# Altium integrated library Analog Devices Interface and Isolation Digital Isolators.IntLib: 644 symbols (part 8 of 37)
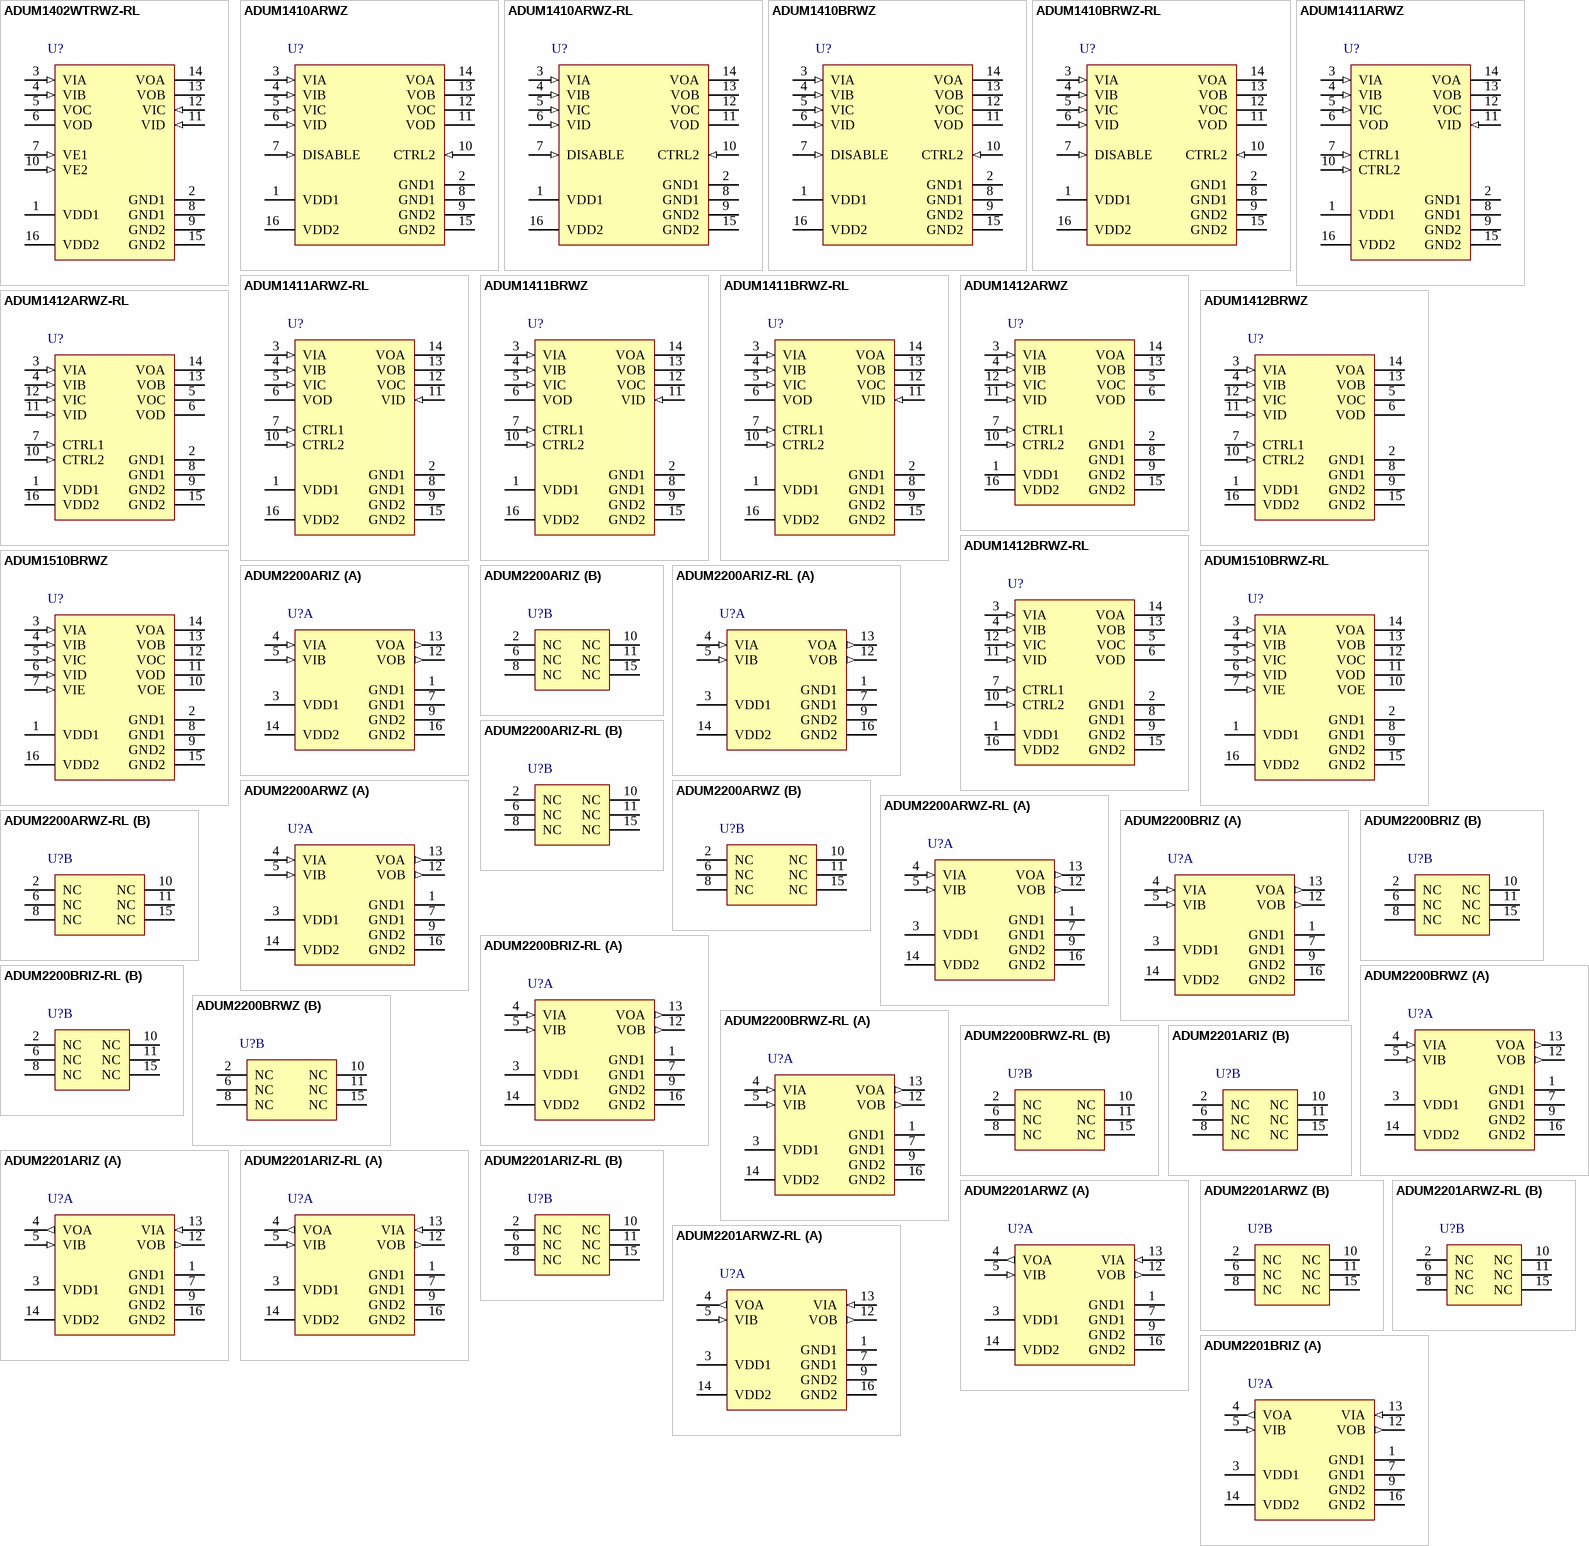
[diagram p27: symbols ADUM1402WTRWZ-RL to ADUM2201BRIZ]

## ADUM1411ARWZ
designator U?
Quad Channel Digital Isolator, 2.5 KV rms Insulation Rating, 1 Mbps Data Rate, 100 ns Delay, Industrial, 16-pin SOIC (RW-16), Tube; Manufacturer: Analog Devices; PartNumber: ADUM1411ARWZ; Insulation Rating (kVrms): 2.5; Max Data Rate: 1Mbps; DatasheetVersion: Rev. I; PackageVersion: 032707-B, 03/2007; PackageReference: RW-16; PackageDescription: 16-Pin Standard Small Outline Package, Body 10.3 x 7.5 mm, Pitch 1.27 mm; Supplier 1: Digi-Key; Supplier Part Number 1: ADUM1411ARWZ-ND; Supplier 2: Farnell; Supplier Part Number 2: 2377151; Supplier 3: Farnell; Supplier Part Number 3: 2148827; Supplier 4: Mouser; Supplier Part Number 4: 584-ADUM1411ARWZ; Max Operating Temp (degreesC): 105; Mounting Technology: Surface Mount; Code_JEDEC: MS-013-AA; ComponentLink1Description: Manufacturer URL; ComponentLink1URL: http://www.analog.com/en/index.html; ComponentLink2Description: Datasheet; ComponentLink2URL: http://www.analog.com/static/imported-files/data_sheets/ADUM1410_1411_1412.pdf; ComponentLink3Description: Package Specification; ComponentLink3URL: http://www.analog.com/static/imported-files/packages/PKG_PDF/SOIC_WIDE%20%28RW%29/RW_16.pdf; ComponentLink4Description: URL Link1; ComponentLink4URL: Product URL:http://www.analog.com/en/interface-isolation/digital-isolators/adum1411/products/product.html
footprint ADI-RW-16_N (SOIC, 16-Leads, Body 10.3x7.5mm, Pitch 1.27mm, IPC Medium Density)
footprint ADI-RW-16_L (SOIC, 16-Leads, Body 10.3x7.5mm, Pitch 1.27mm, IPC High Density)
footprint ADI-RW-16_M (SOIC, 16-Leads, Body 10.3x7.5mm, Pitch 1.27mm, IPC Low Density)
pins: 1 VDD1 (power) "Supply Voltage for Isolator Side 1 (2.7 V to 5.5 V).", 2 GND1 (power) "Ground 1. Ground reference for Isolator Side 1. Pin 2 and Pin 8 are internally connected, and connecting both to GND1 is recommended.", 3 VIA (in) "Logic Input A.", 4 VIB (in) "Logic Input B.", 5 VIC (in) "Logic Input C.", 6 VOD (hiz) "Logic Output D.", 7 CTRL1 (in) "Default Output Control. Controls the logic state the outputs assume when the input power is off. VOD output is high when CTRL1 is high or disconnected and VDD2 is off. VOD output is low when CTRL1 is low and VDD2 is off. (See Datasheet)", 8 GND1 (power) "Ground 1. Ground reference for Isolator Side 1. Pin 2 and Pin 8 are internally connected, and connecting both to GND1 is recommended.", 9 GND2 (power) "Ground 2. Ground reference for Isolator Side 2. Pin 9 and Pin 15 are internally connected, and connecting both to GND2 is recommended.", 10 CTRL2 (in) "Default Output Control. Controls the logic state the outputs assume when the input power is off. VOA, VOB, and VOC outputs are high when CTRL2 is high or disconnected and VDD1 is off. VOA, VOB, and VOC outputs are low when (See Datasheet)", 11 VID (in) "Logic Input D.", 12 VOC (hiz) "Logic Output C.", 13 VOB (hiz) "Logic Output B.", 14 VOA (hiz) "Logic Output A.", 15 GND2 (power) "Ground 2. Ground reference for Isolator Side 2. Pin 9 and Pin 15 are internally connected, and connecting both to GND2 is recommended.", 16 VDD2 (power) "Supply Voltage for Isolator Side 2 (2.7 V to 5.5 V)."

## ADUM1411ARWZ-RL
designator U?
Quad Channel Digital Isolator, 2.5 KV rms Insulation Rating, 1 Mbps Data Rate, 100 ns Delay, Industrial, 16-pin SOIC (RW-16), Reel; Manufacturer: Analog Devices; PartNumber: ADUM1411ARWZ-RL; Insulation Rating (kVrms): 2.5; Max Data Rate: 1Mbps; DatasheetVersion: Rev. I; PackageVersion: 032707-B, 03/2007; PackageReference: RW-16; PackageDescription: 16-Pin Standard Small Outline Package, Body 10.3 x 7.5 mm, Pitch 1.27 mm; Supplier 1: Digi-Key; Supplier Part Number 1: ADUM1411ARWZ-RLTR-ND; Supplier 2: Digi-Key; Supplier Part Number 2: ADUM1411ARWZ-RLCT-ND; Supplier 3: Digi-Key; Supplier Part Number 3: ADUM1411ARWZ-RLDKR-ND; Supplier 4: Mouser; Supplier Part Number 4: 584-ADUM1411ARWZ-R; Max Operating Temp (degreesC): 105; Mounting Technology: Surface Mount; Code_JEDEC: MS-013-AA; ComponentLink1Description: Manufacturer URL; ComponentLink1URL: http://www.analog.com/en/index.html; ComponentLink2Description: Datasheet; ComponentLink2URL: http://www.analog.com/static/imported-files/data_sheets/ADUM1410_1411_1412.pdf; ComponentLink3Description: Package Specification; ComponentLink3URL: http://www.analog.com/static/imported-files/packages/PKG_PDF/SOIC_WIDE%20%28RW%29/RW_16.pdf; ComponentLink4Description: URL Link1; ComponentLink4URL: Product URL:http://www.analog.com/en/interface-isolation/digital-isolators/adum1411/products/product.html
footprint ADI-RW-16_N (SOIC, 16-Leads, Body 10.3x7.5mm, Pitch 1.27mm, IPC Medium Density)
footprint ADI-RW-16_L (SOIC, 16-Leads, Body 10.3x7.5mm, Pitch 1.27mm, IPC High Density)
footprint ADI-RW-16_M (SOIC, 16-Leads, Body 10.3x7.5mm, Pitch 1.27mm, IPC Low Density)
pins: 1 VDD1 (power) "Supply Voltage for Isolator Side 1 (2.7 V to 5.5 V).", 2 GND1 (power) "Ground 1. Ground reference for Isolator Side 1. Pin 2 and Pin 8 are internally connected, and connecting both to GND1 is recommended.", 3 VIA (in) "Logic Input A.", 4 VIB (in) "Logic Input B.", 5 VIC (in) "Logic Input C.", 6 VOD (hiz) "Logic Output D.", 7 CTRL1 (in) "Default Output Control. Controls the logic state the outputs assume when the input power is off. VOD output is high when CTRL1 is high or disconnected and VDD2 is off. VOD output is low when CTRL1 is low and VDD2 is off. (See Datasheet)", 8 GND1 (power) "Ground 1. Ground reference for Isolator Side 1. Pin 2 and Pin 8 are internally connected, and connecting both to GND1 is recommended.", 9 GND2 (power) "Ground 2. Ground reference for Isolator Side 2. Pin 9 and Pin 15 are internally connected, and connecting both to GND2 is recommended.", 10 CTRL2 (in) "Default Output Control. Controls the logic state the outputs assume when the input power is off. VOA, VOB, and VOC outputs are high when CTRL2 is high or disconnected and VDD1 is off. VOA, VOB, and VOC outputs are low when (See Datasheet)", 11 VID (in) "Logic Input D.", 12 VOC (hiz) "Logic Output C.", 13 VOB (hiz) "Logic Output B.", 14 VOA (hiz) "Logic Output A.", 15 GND2 (power) "Ground 2. Ground reference for Isolator Side 2. Pin 9 and Pin 15 are internally connected, and connecting both to GND2 is recommended.", 16 VDD2 (power) "Supply Voltage for Isolator Side 2 (2.7 V to 5.5 V)."

## ADUM1411BRWZ
designator U?
Quad Channel Digital Isolator, 2.5 KV rms Insulation Rating, 10 Mbps Data Rate, 50 ns Delay, Industrial, 16-pin SOIC (RW-16), Tube; Manufacturer: Analog Devices; PartNumber: ADUM1411BRWZ; Insulation Rating (kVrms): 2.5; Max Data Rate: 10Mbps; DatasheetVersion: Rev. I; PackageVersion: 032707-B, 03/2007; PackageReference: RW-16; PackageDescription: 16-Pin Standard Small Outline Package, Body 10.3 x 7.5 mm, Pitch 1.27 mm; Supplier 1: Digi-Key; Supplier Part Number 1: ADUM1411BRWZ-ND; Supplier 2: Farnell; Supplier Part Number 2: 1897130; Supplier 3: Mouser; Supplier Part Number 3: 584-ADUM1411BRWZ; Max Operating Temp (degreesC): 105; Mounting Technology: Surface Mount; Code_JEDEC: MS-013-AA; ComponentLink1Description: Manufacturer URL; ComponentLink1URL: http://www.analog.com/en/index.html; ComponentLink2Description: Datasheet; ComponentLink2URL: http://www.analog.com/static/imported-files/data_sheets/ADUM1410_1411_1412.pdf; ComponentLink3Description: Package Specification; ComponentLink3URL: http://www.analog.com/static/imported-files/packages/PKG_PDF/SOIC_WIDE%20%28RW%29/RW_16.pdf; ComponentLink4Description: URL Link1; ComponentLink4URL: Product URL:http://www.analog.com/en/interface-isolation/digital-isolators/adum1411/products/product.html
footprint ADI-RW-16_N (SOIC, 16-Leads, Body 10.3x7.5mm, Pitch 1.27mm, IPC Medium Density)
footprint ADI-RW-16_L (SOIC, 16-Leads, Body 10.3x7.5mm, Pitch 1.27mm, IPC High Density)
footprint ADI-RW-16_M (SOIC, 16-Leads, Body 10.3x7.5mm, Pitch 1.27mm, IPC Low Density)
pins: 1 VDD1 (power) "Supply Voltage for Isolator Side 1 (2.7 V to 5.5 V).", 2 GND1 (power) "Ground 1. Ground reference for Isolator Side 1. Pin 2 and Pin 8 are internally connected, and connecting both to GND1 is recommended.", 3 VIA (in) "Logic Input A.", 4 VIB (in) "Logic Input B.", 5 VIC (in) "Logic Input C.", 6 VOD (hiz) "Logic Output D.", 7 CTRL1 (in) "Default Output Control. Controls the logic state the outputs assume when the input power is off. VOD output is high when CTRL1 is high or disconnected and VDD2 is off. VOD output is low when CTRL1 is low and VDD2 is off. (See Datasheet)", 8 GND1 (power) "Ground 1. Ground reference for Isolator Side 1. Pin 2 and Pin 8 are internally connected, and connecting both to GND1 is recommended.", 9 GND2 (power) "Ground 2. Ground reference for Isolator Side 2. Pin 9 and Pin 15 are internally connected, and connecting both to GND2 is recommended.", 10 CTRL2 (in) "Default Output Control. Controls the logic state the outputs assume when the input power is off. VOA, VOB, and VOC outputs are high when CTRL2 is high or disconnected and VDD1 is off. VOA, VOB, and VOC outputs are low when (See Datasheet)", 11 VID (in) "Logic Input D.", 12 VOC (hiz) "Logic Output C.", 13 VOB (hiz) "Logic Output B.", 14 VOA (hiz) "Logic Output A.", 15 GND2 (power) "Ground 2. Ground reference for Isolator Side 2. Pin 9 and Pin 15 are internally connected, and connecting both to GND2 is recommended.", 16 VDD2 (power) "Supply Voltage for Isolator Side 2 (2.7 V to 5.5 V)."

## ADUM1411BRWZ-RL
designator U?
Quad Channel Digital Isolator, 2.5 KV rms Insulation Rating, 10 Mbps Data Rate, 50 ns Delay, Industrial, 16-pin SOIC (RW-16), Reel; Manufacturer: Analog Devices; PartNumber: ADUM1411BRWZ-RL; Insulation Rating (kVrms): 2.5; Max Data Rate: 10Mbps; DatasheetVersion: Rev. I; PackageVersion: 032707-B, 03/2007; PackageReference: RW-16; PackageDescription: 16-Pin Standard Small Outline Package, Body 10.3 x 7.5 mm, Pitch 1.27 mm; Supplier 1: Digi-Key; Supplier Part Number 1: ADUM1411BRWZ-RL-ND; Supplier 2: Mouser; Supplier Part Number 2: 584-ADUM1411BRWZ-R; Max Operating Temp (degreesC): 105; Mounting Technology: Surface Mount; Code_JEDEC: MS-013-AA; ComponentLink1Description: Manufacturer URL; ComponentLink1URL: http://www.analog.com/en/index.html; ComponentLink2Description: Datasheet; ComponentLink2URL: http://www.analog.com/static/imported-files/data_sheets/ADUM1410_1411_1412.pdf; ComponentLink3Description: Package Specification; ComponentLink3URL: http://www.analog.com/static/imported-files/packages/PKG_PDF/SOIC_WIDE%20%28RW%29/RW_16.pdf; ComponentLink4Description: URL Link1; ComponentLink4URL: Product URL:http://www.analog.com/en/interface-isolation/digital-isolators/adum1411/products/product.html
footprint ADI-RW-16_N (SOIC, 16-Leads, Body 10.3x7.5mm, Pitch 1.27mm, IPC Medium Density)
footprint ADI-RW-16_L (SOIC, 16-Leads, Body 10.3x7.5mm, Pitch 1.27mm, IPC High Density)
footprint ADI-RW-16_M (SOIC, 16-Leads, Body 10.3x7.5mm, Pitch 1.27mm, IPC Low Density)
pins: 1 VDD1 (power) "Supply Voltage for Isolator Side 1 (2.7 V to 5.5 V).", 2 GND1 (power) "Ground 1. Ground reference for Isolator Side 1. Pin 2 and Pin 8 are internally connected, and connecting both to GND1 is recommended.", 3 VIA (in) "Logic Input A.", 4 VIB (in) "Logic Input B.", 5 VIC (in) "Logic Input C.", 6 VOD (hiz) "Logic Output D.", 7 CTRL1 (in) "Default Output Control. Controls the logic state the outputs assume when the input power is off. VOD output is high when CTRL1 is high or disconnected and VDD2 is off. VOD output is low when CTRL1 is low and VDD2 is off. (See Datasheet)", 8 GND1 (power) "Ground 1. Ground reference for Isolator Side 1. Pin 2 and Pin 8 are internally connected, and connecting both to GND1 is recommended.", 9 GND2 (power) "Ground 2. Ground reference for Isolator Side 2. Pin 9 and Pin 15 are internally connected, and connecting both to GND2 is recommended.", 10 CTRL2 (in) "Default Output Control. Controls the logic state the outputs assume when the input power is off. VOA, VOB, and VOC outputs are high when CTRL2 is high or disconnected and VDD1 is off. VOA, VOB, and VOC outputs are low when (See Datasheet)", 11 VID (in) "Logic Input D.", 12 VOC (hiz) "Logic Output C.", 13 VOB (hiz) "Logic Output B.", 14 VOA (hiz) "Logic Output A.", 15 GND2 (power) "Ground 2. Ground reference for Isolator Side 2. Pin 9 and Pin 15 are internally connected, and connecting both to GND2 is recommended.", 16 VDD2 (power) "Supply Voltage for Isolator Side 2 (2.7 V to 5.5 V)."

## ADUM1412ARWZ
designator U?
Quad Channel Digital Isolator, 2.5 KV rms Insulation Rating, 1 Mbps Data Rate, 100 ns Delay, Industrial, 16-pin SOIC (RW-16), Tube; Manufacturer: Analog Devices; PartNumber: ADUM1412ARWZ; Insulation Rating (kVrms): 2.5; Max Data Rate: 1Mbps; DatasheetVersion: Rev. I; PackageVersion: 032707-B, 03/2007; PackageReference: RW-16; PackageDescription: 16-Pin Standard Small Outline Package, Body 10.3 x 7.5 mm, Pitch 1.27 mm; Supplier 1: Digi-Key; Supplier Part Number 1: ADUM1412ARWZ-ND; Supplier 2: Farnell; Supplier Part Number 2: 2377152; Supplier 3: Farnell; Supplier Part Number 3: 2192213; Supplier 4: Mouser; Supplier Part Number 4: 584-ADUM1412ARWZ; Max Operating Temp (degreesC): 105; Mounting Technology: Surface Mount; Code_JEDEC: MS-013-AA; ComponentLink1Description: Manufacturer URL; ComponentLink1URL: http://www.analog.com/en/index.html; ComponentLink2Description: Datasheet; ComponentLink2URL: http://www.analog.com/static/imported-files/data_sheets/ADUM1410_1411_1412.pdf; ComponentLink3Description: Package Specification; ComponentLink3URL: http://www.analog.com/static/imported-files/packages/PKG_PDF/SOIC_WIDE%20%28RW%29/RW_16.pdf; ComponentLink4Description: URL Link1; ComponentLink4URL: Product URL:http://www.analog.com/en/interface-isolation/digital-isolators/adum1412/products/product.html
footprint ADI-RW-16_N (SOIC, 16-Leads, Body 10.3x7.5mm, Pitch 1.27mm, IPC Medium Density)
footprint ADI-RW-16_L (SOIC, 16-Leads, Body 10.3x7.5mm, Pitch 1.27mm, IPC High Density)
footprint ADI-RW-16_M (SOIC, 16-Leads, Body 10.3x7.5mm, Pitch 1.27mm, IPC Low Density)
pins: 1 VDD1 (power) "Supply Voltage for Isolator Side 1 (2.7 V to 5.5 V).", 2 GND1 (power) "Ground 1. Ground reference for Isolator Side 1. Pin 2 and Pin 8 are internally connected, and connecting both to GND1 is recommended.", 3 VIA (in) "Logic Input A.", 4 VIB (in) "Logic Input B.", 5 VOC (hiz) "Logic Output C.", 6 VOD (hiz) "Logic Output D.", 7 CTRL1 (in) "Default Output Control. Controls the logic state the outputs assume when the input power is off. VOC and VOD outputs are high when CTRL1 is high or disconnected and VDD2 is off. VOC and VOD outputs are low when CTRL1 is low (See Datasheet)", 8 GND1 (power) "Ground 1. Ground reference for Isolator Side 1. Pin 2 and Pin 8 are internally connected, and connecting both to GND1 is recommended.", 9 GND2 (power) "Ground 2. Ground reference for Isolator Side 2. Pin 9 and Pin 15 are internally connected, and connecting both to GND2 is recommended.", 10 CTRL2 (in) "Default Output Control. Controls the logic state the outputs assume when the input power is off. VOA and VOB outputs are high when CTRL2 is high or disconnected and VDD1 is off. VOA and VOB outputs are low when CTRL2 is low (See Datasheet)", 11 VID (in) "Logic Input D.", 12 VIC (in) "Logic Input C.", 13 VOB (hiz) "Logic Output B.", 14 VOA (hiz) "Logic Output A.", 15 GND2 (power) "Ground 2. Ground reference for Isolator Side 2. Pin 9 and Pin 15 are internally connected, and connecting both to GND2 is recommended.", 16 VDD2 (power) "Supply Voltage for Isolator Side 2 (2.7 V to 5.5 V)."

## ADUM1412ARWZ-RL
designator U?
Quad Channel Digital Isolator, 2.5 KV rms Insulation Rating, 1 Mbps Data Rate, 100 ns Delay, Industrial, 16-pin SOIC (RW-16), Reel; Manufacturer: Analog Devices; PartNumber: ADUM1412ARWZ-RL; Insulation Rating (kVrms): 2.5; Max Data Rate: 1Mbps; DatasheetVersion: Rev. I; PackageVersion: 032707-B, 03/2007; PackageReference: RW-16; PackageDescription: 16-Pin Standard Small Outline Package, Body 10.3 x 7.5 mm, Pitch 1.27 mm; Supplier 1: Digi-Key; Supplier Part Number 1: ADUM1412ARWZ-RLTR-ND; Supplier 2: Digi-Key; Supplier Part Number 2: ADUM1412ARWZ-RLCT-ND; Supplier 3: Digi-Key; Supplier Part Number 3: ADUM1412ARWZ-RLDKR-ND; Supplier 4: Mouser; Supplier Part Number 4: 584-ADUM1412ARWZ-R; Max Operating Temp (degreesC): 105; Mounting Technology: Surface Mount; Code_JEDEC: MS-013-AA; ComponentLink1Description: Manufacturer URL; ComponentLink1URL: http://www.analog.com/en/index.html; ComponentLink2Description: Datasheet; ComponentLink2URL: http://www.analog.com/static/imported-files/data_sheets/ADUM1410_1411_1412.pdf; ComponentLink3Description: Package Specification; ComponentLink3URL: http://www.analog.com/static/imported-files/packages/PKG_PDF/SOIC_WIDE%20%28RW%29/RW_16.pdf; ComponentLink4Description: URL Link1; ComponentLink4URL: Product URL:http://www.analog.com/en/interface-isolation/digital-isolators/adum1412/products/product.html
footprint ADI-RW-16_N (SOIC, 16-Leads, Body 10.3x7.5mm, Pitch 1.27mm, IPC Medium Density)
footprint ADI-RW-16_L (SOIC, 16-Leads, Body 10.3x7.5mm, Pitch 1.27mm, IPC High Density)
footprint ADI-RW-16_M (SOIC, 16-Leads, Body 10.3x7.5mm, Pitch 1.27mm, IPC Low Density)
pins: 1 VDD1 (power) "Supply Voltage for Isolator Side 1 (2.7 V to 5.5 V).", 2 GND1 (power) "Ground 1. Ground reference for Isolator Side 1. Pin 2 and Pin 8 are internally connected, and connecting both to GND1 is recommended.", 3 VIA (in) "Logic Input A.", 4 VIB (in) "Logic Input B.", 5 VOC (hiz) "Logic Output C.", 6 VOD (hiz) "Logic Output D.", 7 CTRL1 (in) "Default Output Control. Controls the logic state the outputs assume when the input power is off. VOC and VOD outputs are high when CTRL1 is high or disconnected and VDD2 is off. VOC and VOD outputs are low when CTRL1 is low (See Datasheet)", 8 GND1 (power) "Ground 1. Ground reference for Isolator Side 1. Pin 2 and Pin 8 are internally connected, and connecting both to GND1 is recommended.", 9 GND2 (power) "Ground 2. Ground reference for Isolator Side 2. Pin 9 and Pin 15 are internally connected, and connecting both to GND2 is recommended.", 10 CTRL2 (in) "Default Output Control. Controls the logic state the outputs assume when the input power is off. VOA and VOB outputs are high when CTRL2 is high or disconnected and VDD1 is off. VOA and VOB outputs are low when CTRL2 is low (See Datasheet)", 11 VID (in) "Logic Input D.", 12 VIC (in) "Logic Input C.", 13 VOB (hiz) "Logic Output B.", 14 VOA (hiz) "Logic Output A.", 15 GND2 (power) "Ground 2. Ground reference for Isolator Side 2. Pin 9 and Pin 15 are internally connected, and connecting both to GND2 is recommended.", 16 VDD2 (power) "Supply Voltage for Isolator Side 2 (2.7 V to 5.5 V)."

## ADUM1412BRWZ
designator U?
Quad Channel Digital Isolator, 2.5 KV rms Insulation Rating, 10 Mbps Data Rate, 50 ns Delay, Industrial, 16-pin SOIC (RW-16), Tube; Manufacturer: Analog Devices; PartNumber: ADUM1412BRWZ; Insulation Rating (kVrms): 2.5; Max Data Rate: 10Mbps; DatasheetVersion: Rev. I; PackageVersion: 032707-B, 03/2007; PackageReference: RW-16; PackageDescription: 16-Pin Standard Small Outline Package, Body 10.3 x 7.5 mm, Pitch 1.27 mm; Supplier 1: Digi-Key; Supplier Part Number 1: ADUM1412BRWZ-ND; Supplier 2: Farnell; Supplier Part Number 2: 2377156; Supplier 3: Farnell; Supplier Part Number 3: 2317286; Supplier 4: Mouser; Supplier Part Number 4: 584-ADUM1412BRWZ; Max Operating Temp (degreesC): 105; Mounting Technology: Surface Mount; Code_JEDEC: MS-013-AA; ComponentLink1Description: Manufacturer URL; ComponentLink1URL: http://www.analog.com/en/index.html; ComponentLink2Description: Datasheet; ComponentLink2URL: http://www.analog.com/static/imported-files/data_sheets/ADUM1410_1411_1412.pdf; ComponentLink3Description: Package Specification; ComponentLink3URL: http://www.analog.com/static/imported-files/packages/PKG_PDF/SOIC_WIDE%20%28RW%29/RW_16.pdf; ComponentLink4Description: URL Link1; ComponentLink4URL: Product URL:http://www.analog.com/en/interface-isolation/digital-isolators/adum1412/products/product.html
footprint ADI-RW-16_N (SOIC, 16-Leads, Body 10.3x7.5mm, Pitch 1.27mm, IPC Medium Density)
footprint ADI-RW-16_L (SOIC, 16-Leads, Body 10.3x7.5mm, Pitch 1.27mm, IPC High Density)
footprint ADI-RW-16_M (SOIC, 16-Leads, Body 10.3x7.5mm, Pitch 1.27mm, IPC Low Density)
pins: 1 VDD1 (power) "Supply Voltage for Isolator Side 1 (2.7 V to 5.5 V).", 2 GND1 (power) "Ground 1. Ground reference for Isolator Side 1. Pin 2 and Pin 8 are internally connected, and connecting both to GND1 is recommended.", 3 VIA (in) "Logic Input A.", 4 VIB (in) "Logic Input B.", 5 VOC (hiz) "Logic Output C.", 6 VOD (hiz) "Logic Output D.", 7 CTRL1 (in) "Default Output Control. Controls the logic state the outputs assume when the input power is off. VOC and VOD outputs are high when CTRL1 is high or disconnected and VDD2 is off. VOC and VOD outputs are low when CTRL1 is low (See Datasheet)", 8 GND1 (power) "Ground 1. Ground reference for Isolator Side 1. Pin 2 and Pin 8 are internally connected, and connecting both to GND1 is recommended.", 9 GND2 (power) "Ground 2. Ground reference for Isolator Side 2. Pin 9 and Pin 15 are internally connected, and connecting both to GND2 is recommended.", 10 CTRL2 (in) "Default Output Control. Controls the logic state the outputs assume when the input power is off. VOA and VOB outputs are high when CTRL2 is high or disconnected and VDD1 is off. VOA and VOB outputs are low when CTRL2 is low (See Datasheet)", 11 VID (in) "Logic Input D.", 12 VIC (in) "Logic Input C.", 13 VOB (hiz) "Logic Output B.", 14 VOA (hiz) "Logic Output A.", 15 GND2 (power) "Ground 2. Ground reference for Isolator Side 2. Pin 9 and Pin 15 are internally connected, and connecting both to GND2 is recommended.", 16 VDD2 (power) "Supply Voltage for Isolator Side 2 (2.7 V to 5.5 V)."

## ADUM1412BRWZ-RL
designator U?
Quad Channel Digital Isolator, 2.5 KV rms Insulation Rating, 10 Mbps Data Rate, 50 ns Delay, Industrial, 16-pin SOIC (RW-16), Reel; Manufacturer: Analog Devices; PartNumber: ADUM1412BRWZ-RL; Insulation Rating (kVrms): 2.5; Max Data Rate: 10Mbps; DatasheetVersion: Rev. I; PackageVersion: 032707-B, 03/2007; PackageReference: RW-16; PackageDescription: 16-Pin Standard Small Outline Package, Body 10.3 x 7.5 mm, Pitch 1.27 mm; Supplier 1: Digi-Key; Supplier Part Number 1: ADUM1412BRWZ-RL-ND; Supplier 2: Mouser; Supplier Part Number 2: 584-ADUM1412BRWZ-R; Max Operating Temp (degreesC): 105; Mounting Technology: Surface Mount; Code_JEDEC: MS-013-AA; ComponentLink1Description: Manufacturer URL; ComponentLink1URL: http://www.analog.com/en/index.html; ComponentLink2Description: Datasheet; ComponentLink2URL: http://www.analog.com/static/imported-files/data_sheets/ADUM1410_1411_1412.pdf; ComponentLink3Description: Package Specification; ComponentLink3URL: http://www.analog.com/static/imported-files/packages/PKG_PDF/SOIC_WIDE%20%28RW%29/RW_16.pdf; ComponentLink4Description: URL Link1; ComponentLink4URL: Product URL:http://www.analog.com/en/interface-isolation/digital-isolators/adum1412/products/product.html
footprint ADI-RW-16_N (SOIC, 16-Leads, Body 10.3x7.5mm, Pitch 1.27mm, IPC Medium Density)
footprint ADI-RW-16_L (SOIC, 16-Leads, Body 10.3x7.5mm, Pitch 1.27mm, IPC High Density)
footprint ADI-RW-16_M (SOIC, 16-Leads, Body 10.3x7.5mm, Pitch 1.27mm, IPC Low Density)
pins: 1 VDD1 (power) "Supply Voltage for Isolator Side 1 (2.7 V to 5.5 V).", 2 GND1 (power) "Ground 1. Ground reference for Isolator Side 1. Pin 2 and Pin 8 are internally connected, and connecting both to GND1 is recommended.", 3 VIA (in) "Logic Input A.", 4 VIB (in) "Logic Input B.", 5 VOC (hiz) "Logic Output C.", 6 VOD (hiz) "Logic Output D.", 7 CTRL1 (in) "Default Output Control. Controls the logic state the outputs assume when the input power is off. VOC and VOD outputs are high when CTRL1 is high or disconnected and VDD2 is off. VOC and VOD outputs are low when CTRL1 is low (See Datasheet)", 8 GND1 (power) "Ground 1. Ground reference for Isolator Side 1. Pin 2 and Pin 8 are internally connected, and connecting both to GND1 is recommended.", 9 GND2 (power) "Ground 2. Ground reference for Isolator Side 2. Pin 9 and Pin 15 are internally connected, and connecting both to GND2 is recommended.", 10 CTRL2 (in) "Default Output Control. Controls the logic state the outputs assume when the input power is off. VOA and VOB outputs are high when CTRL2 is high or disconnected and VDD1 is off. VOA and VOB outputs are low when CTRL2 is low (See Datasheet)", 11 VID (in) "Logic Input D.", 12 VIC (in) "Logic Input C.", 13 VOB (hiz) "Logic Output B.", 14 VOA (hiz) "Logic Output A.", 15 GND2 (power) "Ground 2. Ground reference for Isolator Side 2. Pin 9 and Pin 15 are internally connected, and connecting both to GND2 is recommended.", 16 VDD2 (power) "Supply Voltage for Isolator Side 2 (2.7 V to 5.5 V)."

## ADUM1510BRWZ
designator U?
5 Channel Unidirectional Digital Isolator, 2.5 KV rms Insulation Rating, 10 Mbps Data Rate, 50 ns Delay, Industrial, 16-pin SOIC (RW-16), Tube; Manufacturer: Analog Devices; PartNumber: ADUM1510BRWZ; Insulation Rating (kVrms): 2.5; Max Data Rate: 10Mbps; DatasheetVersion: Rev. B; PackageVersion: 032707-B, 03/2007; PackageReference: RW-16; PackageDescription: 16-Pin Standard Small Outline Package, Body 10.3 x 7.5 mm, Pitch 1.27 mm; Supplier 1: Digi-Key; Supplier Part Number 1: ADUM1510BRWZ-ND; Supplier 2: Farnell; Supplier Part Number 2: 2192148; Supplier 3: Mouser; Supplier Part Number 3: 584-ADUM1510BRWZ; Max Operating Temp (degreesC): 105; Mounting Technology: Surface Mount; Code_JEDEC: MS-013-AA; ComponentLink1Description: Manufacturer URL; ComponentLink1URL: http://www.analog.com/en/index.html; ComponentLink2Description: Datasheet; ComponentLink2URL: http://www.analog.com/static/imported-files/data_sheets/ADuM1510.pdf; ComponentLink3Description: Package Specification; ComponentLink3URL: http://www.analog.com/static/imported-files/packages/PKG_PDF/SOIC_WIDE%20%28RW%29/RW_16.pdf; ComponentLink4Description: URL Link1; ComponentLink4URL: Product URL:http://www.analog.com/en/interface-isolation/digital-isolators/adum1510/products/product.html
footprint ADI-RW-16_N (SOIC, 16-Leads, Body 10.3x7.5mm, Pitch 1.27mm, IPC Medium Density)
footprint ADI-RW-16_L (SOIC, 16-Leads, Body 10.3x7.5mm, Pitch 1.27mm, IPC High Density)
footprint ADI-RW-16_M (SOIC, 16-Leads, Body 10.3x7.5mm, Pitch 1.27mm, IPC Low Density)
pins: 1 VDD1 (power) "Supply Voltage for Isolator Side 1 (4.5 V to 5.5 V).", 2 GND1 (power) "Ground 1. Ground reference for Isolator Side 1. Pin 2 and Pin 8 are internally connected, and connecting both to GND1 is recommended.", 3 VIA (in) "Logic Input A.", 4 VIB (in) "Logic Input B.", 5 VIC (in) "Logic Input C.", 6 VID (in) "Logic Input D.", 7 VIE (in) "Logic Input E.", 8 GND1 (power) "Ground 1. Ground reference for Isolator Side 1. Pin 2 and Pin 8 are internally connected, and connecting both to GND1 is recommended.", 9 GND2 (power) "Ground 2. Ground reference for Isolator Side 2. Pin 9 and Pin 15 are internally connected, and connecting both to GND2 is recommended.", 10 VOE (hiz) "Logic Output E.", 11 VOD (hiz) "Logic Output D.", 12 VOC (hiz) "Logic Output C.", 13 VOB (hiz) "Logic Output B.", 14 VOA (hiz) "Logic Output A.", 15 GND2 (power) "Ground 2. Ground reference for Isolator Side 2. Pin 9 and Pin 15 are internally connected, and connecting both to GND2 is recommended.", 16 VDD2 (power) "Supply Voltage for Isolator Side 2 (4.5 V to 5.5 V)."

## ADUM1510BRWZ-RL
designator U?
5 Channel Unidirectional Digital Isolator, 2.5 KV rms Insulation Rating, 10 Mbps Data Rate, 50 ns Delay, Industrial, 16-pin SOIC (RW-16), Reel; Manufacturer: Analog Devices; PartNumber: ADUM1510BRWZ-RL; Insulation Rating (kVrms): 2.5; Max Data Rate: 10Mbps; DatasheetVersion: Rev. B; PackageVersion: 032707-B, 03/2007; PackageReference: RW-16; PackageDescription: 16-Pin Standard Small Outline Package, Body 10.3 x 7.5 mm, Pitch 1.27 mm; Supplier 1: Digi-Key; Supplier Part Number 1: ADUM1510BRWZ-RL-ND; Supplier 2: Mouser; Supplier Part Number 2: 584-ADUM1510BRWZ-R; Max Operating Temp (degreesC): 105; Mounting Technology: Surface Mount; Code_JEDEC: MS-013-AA; ComponentLink1Description: Manufacturer URL; ComponentLink1URL: http://www.analog.com/en/index.html; ComponentLink2Description: Datasheet; ComponentLink2URL: http://www.analog.com/static/imported-files/data_sheets/ADuM1510.pdf; ComponentLink3Description: Package Specification; ComponentLink3URL: http://www.analog.com/static/imported-files/packages/PKG_PDF/SOIC_WIDE%20%28RW%29/RW_16.pdf; ComponentLink4Description: URL Link1; ComponentLink4URL: Product URL:http://www.analog.com/en/interface-isolation/digital-isolators/adum1510/products/product.html
footprint ADI-RW-16_N (SOIC, 16-Leads, Body 10.3x7.5mm, Pitch 1.27mm, IPC Medium Density)
footprint ADI-RW-16_L (SOIC, 16-Leads, Body 10.3x7.5mm, Pitch 1.27mm, IPC High Density)
footprint ADI-RW-16_M (SOIC, 16-Leads, Body 10.3x7.5mm, Pitch 1.27mm, IPC Low Density)
pins: 1 VDD1 (power) "Supply Voltage for Isolator Side 1 (4.5 V to 5.5 V).", 2 GND1 (power) "Ground 1. Ground reference for Isolator Side 1. Pin 2 and Pin 8 are internally connected, and connecting both to GND1 is recommended.", 3 VIA (in) "Logic Input A.", 4 VIB (in) "Logic Input B.", 5 VIC (in) "Logic Input C.", 6 VID (in) "Logic Input D.", 7 VIE (in) "Logic Input E.", 8 GND1 (power) "Ground 1. Ground reference for Isolator Side 1. Pin 2 and Pin 8 are internally connected, and connecting both to GND1 is recommended.", 9 GND2 (power) "Ground 2. Ground reference for Isolator Side 2. Pin 9 and Pin 15 are internally connected, and connecting both to GND2 is recommended.", 10 VOE (hiz) "Logic Output E.", 11 VOD (hiz) "Logic Output D.", 12 VOC (hiz) "Logic Output C.", 13 VOB (hiz) "Logic Output B.", 14 VOA (hiz) "Logic Output A.", 15 GND2 (power) "Ground 2. Ground reference for Isolator Side 2. Pin 9 and Pin 15 are internally connected, and connecting both to GND2 is recommended.", 16 VDD2 (power) "Supply Voltage for Isolator Side 2 (4.5 V to 5.5 V)."

## ADUM2200ARIZ
designator U?
Dual Channel Digital Isolator, 5 KV rms Insulation Rating, 1 Mbps Data Rate, 150 ns Delay, Industrial, 16-pin SOIC (RI-16-2), Tube; Manufacturer: Analog Devices; PartNumber: ADUM2200ARIZ; Insulation Rating (kVrms): 5; Max Data Rate: 1Mbps; DatasheetVersion: Rev. D; PackageVersion: 11-15-2011-A, 11/2012; PackageReference: RI-16-2; PackageDescription: 16-Pin Standard Small Outline Package, with Increased Creepage, Body 12.75 x 7.5 mm, Pitch 1.27 mm; Supplier 1: Digi-Key; Supplier Part Number 1: ADUM2200ARIZ-ND; Supplier 2: Mouser; Supplier Part Number 2: 584-ADUM2200ARIZ; Max Operating Temp (degreesC): 105; Mounting Technology: Surface Mount; Code_JEDEC: MS-013-AC; ComponentLink1Description: Manufacturer URL; ComponentLink1URL: http://www.analog.com/en/index.html; ComponentLink2Description: Datasheet; ComponentLink2URL: http://www.analog.com/static/imported-files/data_sheets/ADuM2200_2201.pdf; ComponentLink3Description: Package Specification; ComponentLink3URL: http://www.analog.com/static/imported-files/data_sheets/ADuM2280_2281_2285_2286.pdf; ComponentLink4Description: URL Link1; ComponentLink4URL: Product URL:http://www.analog.com/en/interface-isolation/digital-isolators/adum2200/products/product.html
footprint ADI-RI-16-2_N (SOIC, 16-Leads, Body 12.75x7.5mm, Pitch 1.27mm, IPC Medium Density)
footprint ADI-RI-16-2_L (SOIC, 16-Leads, Body 12.75x7.5mm, Pitch 1.27mm, IPC High Density)
footprint ADI-RI-16-2_M (SOIC, 16-Leads, Body 12.75x7.5mm, Pitch 1.27mm, IPC Low Density)
part A pins: 1 GND1 (power) "Ground 1. Ground reference for Isolator Side 1. Pin 1 and Pin 7 are internally connected to each other, and it is recommended that both pins be connected to a common ground.", 3 VDD1 (power) "Supply Voltage for Isolator Side 1, 3.0 V to 5.5 V.", 4 VIA (in) "Logic Input A.", 5 VIB (in) "Logic Input B.", 7 GND1 (power) "Ground 1. Ground reference for Isolator Side 1. Pin 1 and Pin 7 are internally connected to each other, and it is recommended that both pins be connected to a common ground.", 9 GND2 (power) "Ground 2. Ground reference for Isolator Side 2. Pin 9 and Pin 16 are internally connected to each other, and it is recommended that both pins be connected to a common ground.", 12 VOB (out) "Logic Output B.", 13 VOA (out) "Logic Output A.", 14 VDD2 (power) "Supply Voltage for Isolator Side 2, 3.0 V to 5.5 V.", 16 GND2 (power) "Ground 2. Ground reference for Isolator Side 2. Pin 9 and Pin 16 are internally connected to each other, and it is recommended that both pins be connected to a common ground."
part B pins: 2 NC "No Internal Connection.", 6 NC "No Internal Connection.", 8 NC "No Internal Connection.", 10 NC "No Internal Connection.", 11 NC "No Internal Connection.", 15 NC "No Internal Connection."

## ADUM2200ARIZ-RL
designator U?
Dual Channel Digital Isolator, 5 KV rms Insulation Rating, 1 Mbps Data Rate, 150 ns Delay, Industrial, 16-pin SOIC (RI-16-2), Reel; Manufacturer: Analog Devices; PartNumber: ADUM2200ARIZ-RL; Insulation Rating (kVrms): 5; Max Data Rate: 1Mbps; DatasheetVersion: Rev. D; PackageVersion: 11-15-2011-A, 11/2012; PackageReference: RI-16-2; PackageDescription: 16-Pin Standard Small Outline Package, with Increased Creepage, Body 12.75 x 7.5 mm, Pitch 1.27 mm; Supplier 1: Digi-Key; Supplier Part Number 1: ADUM2200ARIZ-RL-ND; Supplier 2: Mouser; Supplier Part Number 2: 584-ADUM2200ARIZ-R; Max Operating Temp (degreesC): 105; Mounting Technology: Surface Mount; Code_JEDEC: MS-013-AC; ComponentLink1Description: Manufacturer URL; ComponentLink1URL: http://www.analog.com/en/index.html; ComponentLink2Description: Datasheet; ComponentLink2URL: http://www.analog.com/static/imported-files/data_sheets/ADuM2200_2201.pdf; ComponentLink3Description: Package Specification; ComponentLink3URL: http://www.analog.com/static/imported-files/data_sheets/ADuM2280_2281_2285_2286.pdf; ComponentLink4Description: URL Link1; ComponentLink4URL: Product URL:http://www.analog.com/en/interface-isolation/digital-isolators/adum2200/products/product.html
footprint ADI-RI-16-2_N (SOIC, 16-Leads, Body 12.75x7.5mm, Pitch 1.27mm, IPC Medium Density)
footprint ADI-RI-16-2_L (SOIC, 16-Leads, Body 12.75x7.5mm, Pitch 1.27mm, IPC High Density)
footprint ADI-RI-16-2_M (SOIC, 16-Leads, Body 12.75x7.5mm, Pitch 1.27mm, IPC Low Density)
part A pins: 1 GND1 (power) "Ground 1. Ground reference for Isolator Side 1. Pin 1 and Pin 7 are internally connected to each other, and it is recommended that both pins be connected to a common ground.", 3 VDD1 (power) "Supply Voltage for Isolator Side 1, 3.0 V to 5.5 V.", 4 VIA (in) "Logic Input A.", 5 VIB (in) "Logic Input B.", 7 GND1 (power) "Ground 1. Ground reference for Isolator Side 1. Pin 1 and Pin 7 are internally connected to each other, and it is recommended that both pins be connected to a common ground.", 9 GND2 (power) "Ground 2. Ground reference for Isolator Side 2. Pin 9 and Pin 16 are internally connected to each other, and it is recommended that both pins be connected to a common ground.", 12 VOB (out) "Logic Output B.", 13 VOA (out) "Logic Output A.", 14 VDD2 (power) "Supply Voltage for Isolator Side 2, 3.0 V to 5.5 V.", 16 GND2 (power) "Ground 2. Ground reference for Isolator Side 2. Pin 9 and Pin 16 are internally connected to each other, and it is recommended that both pins be connected to a common ground."
part B pins: 2 NC "No Internal Connection.", 6 NC "No Internal Connection.", 8 NC "No Internal Connection.", 10 NC "No Internal Connection.", 11 NC "No Internal Connection.", 15 NC "No Internal Connection."

## ADUM2200ARWZ
designator U?
Dual Channel Digital Isolator, 5 KV rms Insulation Rating, 1 Mbps Data Rate, 150 ns Delay, Industrial, 16-pin SOIC (RW-16), Tube; Manufacturer: Analog Devices; PartNumber: ADUM2200ARWZ; Insulation Rating (kVrms): 5; Max Data Rate: 1Mbps; DatasheetVersion: Rev. D; PackageVersion: 032707-B, 03/2007; PackageReference: RW-16; PackageDescription: 16-Pin Standard Small Outline Package, Body 10.3 x 7.5 mm, Pitch 1.27 mm; Supplier 1: Digi-Key; Supplier Part Number 1: ADUM2200ARWZ-ND; Supplier 2: Farnell; Supplier Part Number 2: 2317133; Supplier 3: Mouser; Supplier Part Number 3: 584-ADUM2200ARWZ; Max Operating Temp (degreesC): 105; Mounting Technology: Surface Mount; Code_JEDEC: MS-013-AA; ComponentLink1Description: Manufacturer URL; ComponentLink1URL: http://www.analog.com/en/index.html; ComponentLink2Description: Datasheet; ComponentLink2URL: http://www.analog.com/static/imported-files/data_sheets/ADuM2200_2201.pdf; ComponentLink3Description: Package Specification; ComponentLink3URL: http://www.analog.com/static/imported-files/packages/PKG_PDF/SOIC_WIDE%20%28RW%29/RW_16.pdf; ComponentLink4Description: URL Link1; ComponentLink4URL: Product URL:http://www.analog.com/en/interface-isolation/digital-isolators/adum2200/products/product.html
footprint ADI-RW-16_N (SOIC, 16-Leads, Body 10.3x7.5mm, Pitch 1.27mm, IPC Medium Density)
footprint ADI-RW-16_L (SOIC, 16-Leads, Body 10.3x7.5mm, Pitch 1.27mm, IPC High Density)
footprint ADI-RW-16_M (SOIC, 16-Leads, Body 10.3x7.5mm, Pitch 1.27mm, IPC Low Density)
part A pins: 1 GND1 (power) "Ground 1. Ground reference for Isolator Side 1. Pin 1 and Pin 7 are internally connected to each other, and it is recommended that both pins be connected to a common ground.", 3 VDD1 (power) "Supply Voltage for Isolator Side 1, 3.0 V to 5.5 V.", 4 VIA (in) "Logic Input A.", 5 VIB (in) "Logic Input B.", 7 GND1 (power) "Ground 1. Ground reference for Isolator Side 1. Pin 1 and Pin 7 are internally connected to each other, and it is recommended that both pins be connected to a common ground.", 9 GND2 (power) "Ground 2. Ground reference for Isolator Side 2. Pin 9 and Pin 16 are internally connected to each other, and it is recommended that both pins be connected to a common ground.", 12 VOB (out) "Logic Output B.", 13 VOA (out) "Logic Output A.", 14 VDD2 (power) "Supply Voltage for Isolator Side 2, 3.0 V to 5.5 V.", 16 GND2 (power) "Ground 2. Ground reference for Isolator Side 2. Pin 9 and Pin 16 are internally connected to each other, and it is recommended that both pins be connected to a common ground."
part B pins: 2 NC "No Internal Connection.", 6 NC "No Internal Connection.", 8 NC "No Internal Connection.", 10 NC "No Internal Connection.", 11 NC "No Internal Connection.", 15 NC "No Internal Connection."

## ADUM2200ARWZ-RL
designator U?
Dual Channel Digital Isolator, 5 KV rms Insulation Rating, 1 Mbps Data Rate, 150 ns Delay, Industrial, 16-pin SOIC (RW-16), Reel; Manufacturer: Analog Devices; PartNumber: ADUM2200ARWZ-RL; Insulation Rating (kVrms): 5; Max Data Rate: 1Mbps; DatasheetVersion: Rev. D; PackageVersion: 032707-B, 03/2007; PackageReference: RW-16; PackageDescription: 16-Pin Standard Small Outline Package, Body 10.3 x 7.5 mm, Pitch 1.27 mm; Supplier 1: Digi-Key; Supplier Part Number 1: ADUM2200ARWZ-RL-ND; Supplier 2: Mouser; Supplier Part Number 2: 584-ADUM2200ARWZ-R; Max Operating Temp (degreesC): 105; Mounting Technology: Surface Mount; Code_JEDEC: MS-013-AA; ComponentLink1Description: Manufacturer URL; ComponentLink1URL: http://www.analog.com/en/index.html; ComponentLink2Description: Datasheet; ComponentLink2URL: http://www.analog.com/static/imported-files/data_sheets/ADuM2200_2201.pdf; ComponentLink3Description: Package Specification; ComponentLink3URL: http://www.analog.com/static/imported-files/packages/PKG_PDF/SOIC_WIDE%20%28RW%29/RW_16.pdf; ComponentLink4Description: URL Link1; ComponentLink4URL: Product URL:http://www.analog.com/en/interface-isolation/digital-isolators/adum2200/products/product.html
footprint ADI-RW-16_N (SOIC, 16-Leads, Body 10.3x7.5mm, Pitch 1.27mm, IPC Medium Density)
footprint ADI-RW-16_L (SOIC, 16-Leads, Body 10.3x7.5mm, Pitch 1.27mm, IPC High Density)
footprint ADI-RW-16_M (SOIC, 16-Leads, Body 10.3x7.5mm, Pitch 1.27mm, IPC Low Density)
part A pins: 1 GND1 (power) "Ground 1. Ground reference for Isolator Side 1. Pin 1 and Pin 7 are internally connected to each other, and it is recommended that both pins be connected to a common ground.", 3 VDD1 (power) "Supply Voltage for Isolator Side 1, 3.0 V to 5.5 V.", 4 VIA (in) "Logic Input A.", 5 VIB (in) "Logic Input B.", 7 GND1 (power) "Ground 1. Ground reference for Isolator Side 1. Pin 1 and Pin 7 are internally connected to each other, and it is recommended that both pins be connected to a common ground.", 9 GND2 (power) "Ground 2. Ground reference for Isolator Side 2. Pin 9 and Pin 16 are internally connected to each other, and it is recommended that both pins be connected to a common ground.", 12 VOB (out) "Logic Output B.", 13 VOA (out) "Logic Output A.", 14 VDD2 (power) "Supply Voltage for Isolator Side 2, 3.0 V to 5.5 V.", 16 GND2 (power) "Ground 2. Ground reference for Isolator Side 2. Pin 9 and Pin 16 are internally connected to each other, and it is recommended that both pins be connected to a common ground."
part B pins: 2 NC "No Internal Connection.", 6 NC "No Internal Connection.", 8 NC "No Internal Connection.", 10 NC "No Internal Connection.", 11 NC "No Internal Connection.", 15 NC "No Internal Connection."

## ADUM2200BRIZ
designator U?
Dual Channel Digital Isolator, 5 KV rms Insulation Rating, 10 Mbps Data Rate, 50 ns Delay, Industrial, 16-pin SOIC (RI-16-2), Tube; Manufacturer: Analog Devices; PartNumber: ADUM2200BRIZ; Insulation Rating (kVrms): 5; Max Data Rate: 10Mbps; DatasheetVersion: Rev. D; PackageVersion: 11-15-2011-A, 11/2012; PackageReference: RI-16-2; PackageDescription: 16-Pin Standard Small Outline Package, with Increased Creepage, Body 12.75 x 7.5 mm, Pitch 1.27 mm; Supplier 1: Digi-Key; Supplier Part Number 1: ADUM2200BRIZ-ND; Supplier 2: Farnell; Supplier Part Number 2: 2061071; Supplier 3: Mouser; Supplier Part Number 3: 584-ADUM2200BRIZ; Max Operating Temp (degreesC): 105; Mounting Technology: Surface Mount; Code_JEDEC: MS-013-AC; ComponentLink1Description: Manufacturer URL; ComponentLink1URL: http://www.analog.com/en/index.html; ComponentLink2Description: Datasheet; ComponentLink2URL: http://www.analog.com/static/imported-files/data_sheets/ADuM2200_2201.pdf; ComponentLink3Description: Package Specification; ComponentLink3URL: http://www.analog.com/static/imported-files/data_sheets/ADuM2280_2281_2285_2286.pdf; ComponentLink4Description: URL Link1; ComponentLink4URL: Product URL:http://www.analog.com/en/interface-isolation/digital-isolators/adum2200/products/product.html
footprint ADI-RI-16-2_N (SOIC, 16-Leads, Body 12.75x7.5mm, Pitch 1.27mm, IPC Medium Density)
footprint ADI-RI-16-2_L (SOIC, 16-Leads, Body 12.75x7.5mm, Pitch 1.27mm, IPC High Density)
footprint ADI-RI-16-2_M (SOIC, 16-Leads, Body 12.75x7.5mm, Pitch 1.27mm, IPC Low Density)
part A pins: 1 GND1 (power) "Ground 1. Ground reference for Isolator Side 1. Pin 1 and Pin 7 are internally connected to each other, and it is recommended that both pins be connected to a common ground.", 3 VDD1 (power) "Supply Voltage for Isolator Side 1, 3.0 V to 5.5 V.", 4 VIA (in) "Logic Input A.", 5 VIB (in) "Logic Input B.", 7 GND1 (power) "Ground 1. Ground reference for Isolator Side 1. Pin 1 and Pin 7 are internally connected to each other, and it is recommended that both pins be connected to a common ground.", 9 GND2 (power) "Ground 2. Ground reference for Isolator Side 2. Pin 9 and Pin 16 are internally connected to each other, and it is recommended that both pins be connected to a common ground.", 12 VOB (out) "Logic Output B.", 13 VOA (out) "Logic Output A.", 14 VDD2 (power) "Supply Voltage for Isolator Side 2, 3.0 V to 5.5 V.", 16 GND2 (power) "Ground 2. Ground reference for Isolator Side 2. Pin 9 and Pin 16 are internally connected to each other, and it is recommended that both pins be connected to a common ground."
part B pins: 2 NC "No Internal Connection.", 6 NC "No Internal Connection.", 8 NC "No Internal Connection.", 10 NC "No Internal Connection.", 11 NC "No Internal Connection.", 15 NC "No Internal Connection."

## ADUM2200BRIZ-RL
designator U?
Dual Channel Digital Isolator, 5 KV rms Insulation Rating, 10 Mbps Data Rate, 50 ns Delay, Industrial, 16-pin SOIC (RI-16-2), Reel; Manufacturer: Analog Devices; PartNumber: ADUM2200BRIZ-RL; Insulation Rating (kVrms): 5; Max Data Rate: 10Mbps; DatasheetVersion: Rev. D; PackageVersion: 11-15-2011-A, 11/2012; PackageReference: RI-16-2; PackageDescription: 16-Pin Standard Small Outline Package, with Increased Creepage, Body 12.75 x 7.5 mm, Pitch 1.27 mm; Supplier 1: Digi-Key; Supplier Part Number 1: ADUM2200BRIZ-RL-ND; Supplier 2: Mouser; Supplier Part Number 2: 584-ADUM2200BRIZ-R; Max Operating Temp (degreesC): 105; Mounting Technology: Surface Mount; Code_JEDEC: MS-013-AC; ComponentLink1Description: Manufacturer URL; ComponentLink1URL: http://www.analog.com/en/index.html; ComponentLink2Description: Datasheet; ComponentLink2URL: http://www.analog.com/static/imported-files/data_sheets/ADuM2200_2201.pdf; ComponentLink3Description: Package Specification; ComponentLink3URL: http://www.analog.com/static/imported-files/data_sheets/ADuM2280_2281_2285_2286.pdf; ComponentLink4Description: URL Link1; ComponentLink4URL: Product URL:http://www.analog.com/en/interface-isolation/digital-isolators/adum2200/products/product.html
footprint ADI-RI-16-2_N (SOIC, 16-Leads, Body 12.75x7.5mm, Pitch 1.27mm, IPC Medium Density)
footprint ADI-RI-16-2_L (SOIC, 16-Leads, Body 12.75x7.5mm, Pitch 1.27mm, IPC High Density)
footprint ADI-RI-16-2_M (SOIC, 16-Leads, Body 12.75x7.5mm, Pitch 1.27mm, IPC Low Density)
part A pins: 1 GND1 (power) "Ground 1. Ground reference for Isolator Side 1. Pin 1 and Pin 7 are internally connected to each other, and it is recommended that both pins be connected to a common ground.", 3 VDD1 (power) "Supply Voltage for Isolator Side 1, 3.0 V to 5.5 V.", 4 VIA (in) "Logic Input A.", 5 VIB (in) "Logic Input B.", 7 GND1 (power) "Ground 1. Ground reference for Isolator Side 1. Pin 1 and Pin 7 are internally connected to each other, and it is recommended that both pins be connected to a common ground.", 9 GND2 (power) "Ground 2. Ground reference for Isolator Side 2. Pin 9 and Pin 16 are internally connected to each other, and it is recommended that both pins be connected to a common ground.", 12 VOB (out) "Logic Output B.", 13 VOA (out) "Logic Output A.", 14 VDD2 (power) "Supply Voltage for Isolator Side 2, 3.0 V to 5.5 V.", 16 GND2 (power) "Ground 2. Ground reference for Isolator Side 2. Pin 9 and Pin 16 are internally connected to each other, and it is recommended that both pins be connected to a common ground."
part B pins: 2 NC "No Internal Connection.", 6 NC "No Internal Connection.", 8 NC "No Internal Connection.", 10 NC "No Internal Connection.", 11 NC "No Internal Connection.", 15 NC "No Internal Connection."

## ADUM2200BRWZ
designator U?
Dual Channel Digital Isolator, 5 KV rms Insulation Rating, 10 Mbps Data Rate, 50 ns Delay, Industrial, 16-pin SOIC (RW-16), Tube; Manufacturer: Analog Devices; PartNumber: ADUM2200BRWZ; Insulation Rating (kVrms): 5; Max Data Rate: 10Mbps; DatasheetVersion: Rev. D; PackageVersion: 032707-B, 03/2007; PackageReference: RW-16; PackageDescription: 16-Pin Standard Small Outline Package, Body 10.3 x 7.5 mm, Pitch 1.27 mm; Supplier 1: Digi-Key; Supplier Part Number 1: ADUM2200BRWZ-ND; Supplier 2: Mouser; Supplier Part Number 2: 584-ADUM2200BRWZ; Max Operating Temp (degreesC): 105; Mounting Technology: Surface Mount; Code_JEDEC: MS-013-AA; ComponentLink1Description: Manufacturer URL; ComponentLink1URL: http://www.analog.com/en/index.html; ComponentLink2Description: Datasheet; ComponentLink2URL: http://www.analog.com/static/imported-files/data_sheets/ADuM2200_2201.pdf; ComponentLink3Description: Package Specification; ComponentLink3URL: http://www.analog.com/static/imported-files/packages/PKG_PDF/SOIC_WIDE%20%28RW%29/RW_16.pdf; ComponentLink4Description: URL Link1; ComponentLink4URL: Product URL:http://www.analog.com/en/interface-isolation/digital-isolators/adum2200/products/product.html
footprint ADI-RW-16_N (SOIC, 16-Leads, Body 10.3x7.5mm, Pitch 1.27mm, IPC Medium Density)
footprint ADI-RW-16_L (SOIC, 16-Leads, Body 10.3x7.5mm, Pitch 1.27mm, IPC High Density)
footprint ADI-RW-16_M (SOIC, 16-Leads, Body 10.3x7.5mm, Pitch 1.27mm, IPC Low Density)
part A pins: 1 GND1 (power) "Ground 1. Ground reference for Isolator Side 1. Pin 1 and Pin 7 are internally connected to each other, and it is recommended that both pins be connected to a common ground.", 3 VDD1 (power) "Supply Voltage for Isolator Side 1, 3.0 V to 5.5 V.", 4 VIA (in) "Logic Input A.", 5 VIB (in) "Logic Input B.", 7 GND1 (power) "Ground 1. Ground reference for Isolator Side 1. Pin 1 and Pin 7 are internally connected to each other, and it is recommended that both pins be connected to a common ground.", 9 GND2 (power) "Ground 2. Ground reference for Isolator Side 2. Pin 9 and Pin 16 are internally connected to each other, and it is recommended that both pins be connected to a common ground.", 12 VOB (out) "Logic Output B.", 13 VOA (out) "Logic Output A.", 14 VDD2 (power) "Supply Voltage for Isolator Side 2, 3.0 V to 5.5 V.", 16 GND2 (power) "Ground 2. Ground reference for Isolator Side 2. Pin 9 and Pin 16 are internally connected to each other, and it is recommended that both pins be connected to a common ground."
part B pins: 2 NC "No Internal Connection.", 6 NC "No Internal Connection.", 8 NC "No Internal Connection.", 10 NC "No Internal Connection.", 11 NC "No Internal Connection.", 15 NC "No Internal Connection."